# Altium footprint library PCB_Motor_controller.PcbLib: 16 footprints
Each footprint in its own frame and in the unit in brackets; x right, y up, seen from the top. Pads: shape width x height; smd on the part's side, far side on the other; paste and mask are expansions set on the pad; w line width, h text height; cw(c..) or ccw(c..) is an arc to the next point about the centre after c.
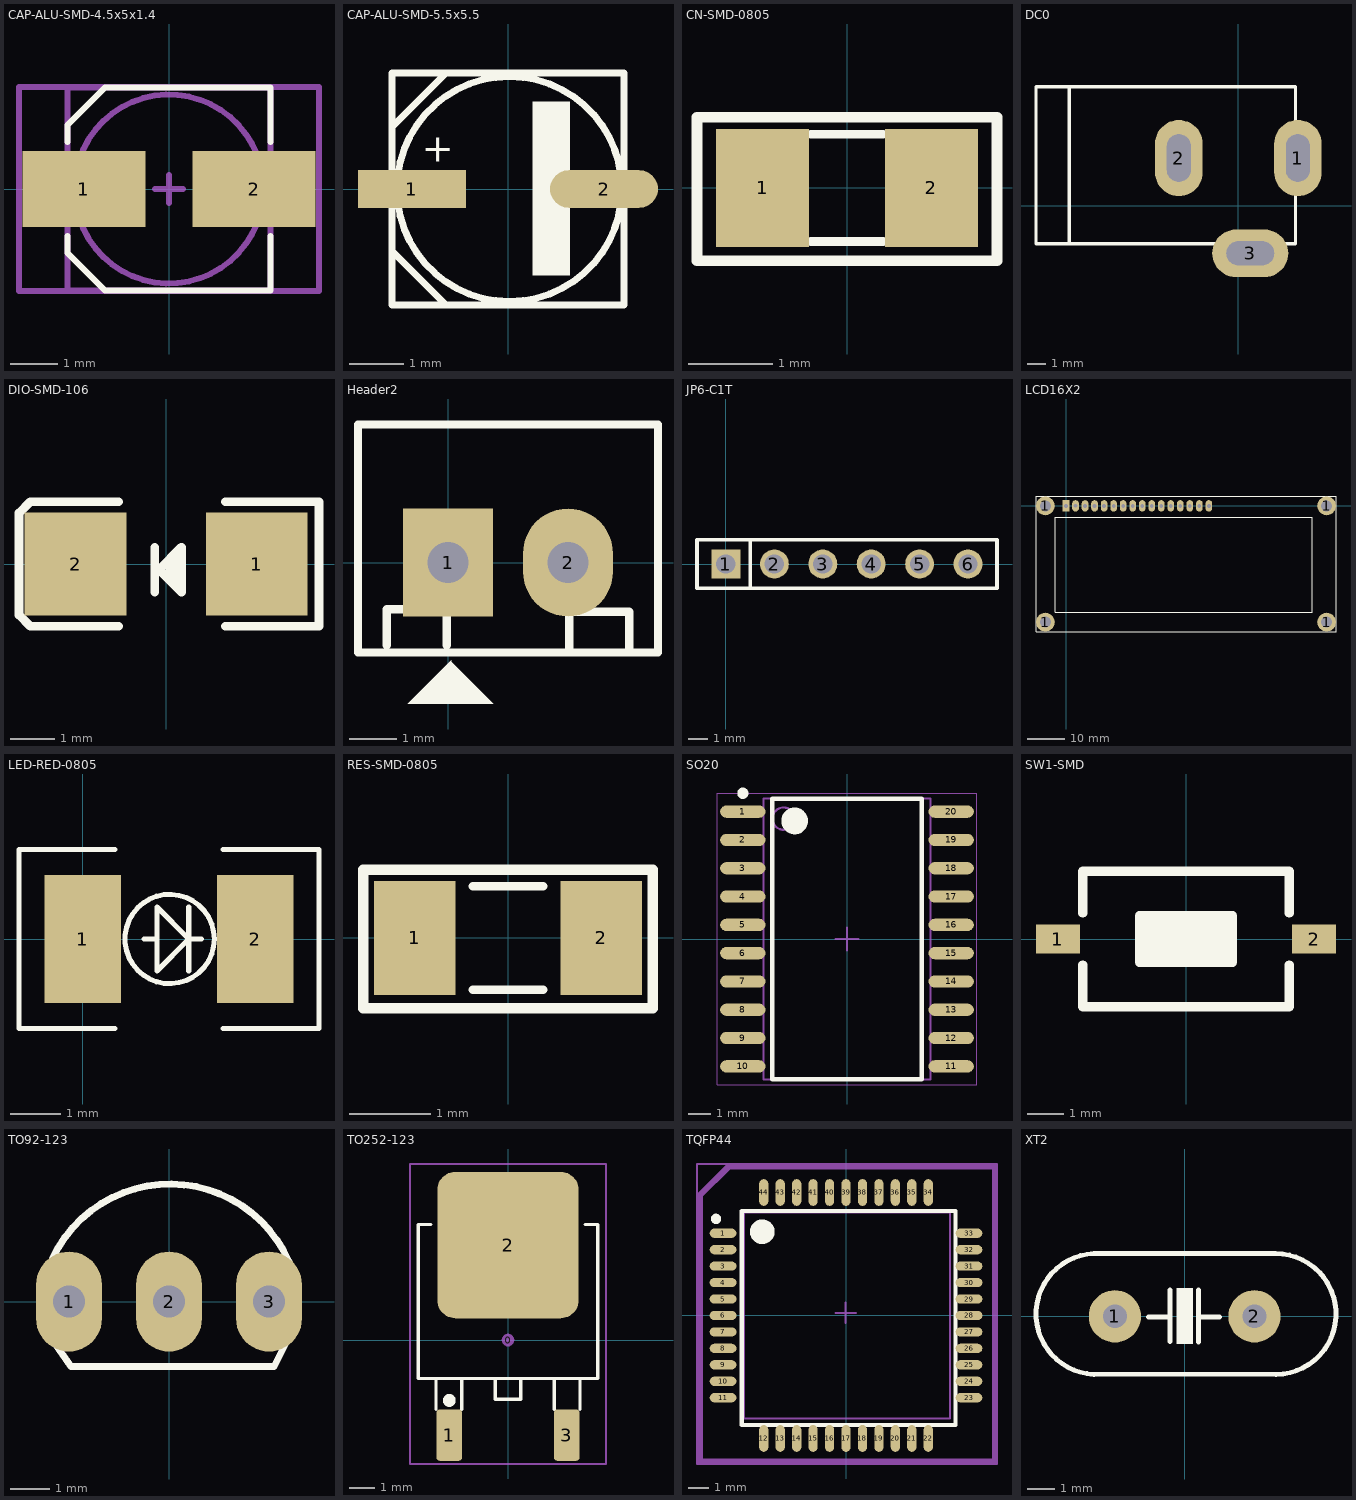
[diagram p0: the footprints below, top view; thin cyan lines are the x and y axes]

## CAP-ALU-SMD-4.5x5x1.4 [mm]
pads (2):
  rect 2.6x1.6 smd: 1(-1.8,0) 2(1.8,0)
Top Overlay:
  lines w0.127: -2.15,-1 -2.15,-1.35 -1.35,-2.15 2.15,-2.15 2.15,-1 ; -2.15,1 -2.15,1.35 -1.35,2.15 2.15,2.15 2.15,1
Mechanical 13:
  circle w0.127: c0,0 r2
  lines w0.127: -2.15,-2.15 2.15,-2.15 2.15,2.15 -2.15,2.15 -2.15,-2.15
Mechanical 15:
  lines w0.127: -0.3,0 0.3,0 ; 0,-0.3 0,0.3 ; -3.175,-2.159 3.175,-2.159 3.175,2.159 -3.175,2.159 -3.175,-2.159
3D body "4x5.5x1.stp": height 5.45, standoff -0.05, extent -2.5,-2.15 2.5,2.15

## CAP-ALU-SMD-5.5x5.5 [mm]
pads (2):
  rect 2x0.7 smd: 1(-1.778,0)
  oval 2x0.7 smd: 2(1.778,0)
Top Overlay:
  circle w0.127: c0.025,0 r2.083
  rectangle: 0.45,-1.6 1.15,1.625
  lines w0.127: -2.15,-1.15 -1.15,-2.15 ; -2.15,-0.05 -2.15,0.85 ; -2.15,1.15 -1.15,2.15 -0.85,2.15 ; -2.15,-2.15 2.15,-2.15 2.15,2.15 -2.15,2.15 -2.15,-2.15
  text "+" at -1.6,0.325 h0.89
3D body "User Library-ALU-B.STEP": height 5.4, standoff 0, extent -2.3,-2.15 2.3,2.15

## CN-SMD-0805 [mm]
pads (2):
  rect 1.1x1.397 smd: 1(-1,0) 2(1,0)
Top Overlay:
  lines w0.102: -0.432,-0.635 0.432,-0.635 ; -0.432,0.635 0.432,0.635
  lines w0.127: -1.778,-0.864 1.778,-0.864 1.778,0.838 -1.778,0.838 -1.778,-0.864
3D body "0805 SMD Capacitor.step": height 0.8, standoff 0.02, extent -1,-0.625 1,0.625

## DC0 [mil]
pads (3):
  oval 100x160 hole 50 slot 100 at 90 deg: 1(125,100) 2(-125,100)
  oval 160x100 hole 50 slot 100 at 0 deg: 3(25,-100)
Top Overlay:
  lines w7: -355,-80 -355,250 ; -425,-80 -425,250 120,250 120,-80 -425,-80
3D body "SW3dPS-dc range - dc connector[4840.2201].STEP": height 433.67, standoff -137.2, extent -410.35,-105.12 134,269.12

## DIO-SMD-106 [mil]
pads (2):
  rect 90x90.55 smd: 1(80,0) 2(-80,0)
Top Overlay:
  lines w7.87: -42.24,-55 -120,-55 -130,-45 -130,45 -120,55 -42.24,55 ; -10.12,-24.68 -10.12,14.69 ; 3.66,-10.91 3.66,0.91 ; 9.57,-16.81 9.57,6.81 ; 52.24,-55 135,-55 135,55 52.24,55 ; -6.18,-5 13.5,14.69 13.5,-24.68 -6.18,-5
Mechanical 1:
  lines w3.94: -2.87,0 12.87,0 ; 5,-7.87 5,7.87
3D body "User Library-DO-214Aa SMA.step": height 94.69, standoff 0, extent -98.7,-50.27 106.03,52.09

## Header2 [mil]
pads (2):
  rect 75x90 hole 34: 1(0,0)
  oval 75x90 hole 34: 2(100,0)
Top Overlay:
  region: -33.5,-117.5 37.5,-117.5 2.5,-82.5 2.5,-81.5
  lines w7: -51,-69 -51,-39 -1,-39 -1,-69 ; 101,-71 101,-41 151,-41 151,-71 ; -75,-75 175,-75 175,115 -75,115 -75,-75
3D body "User Library-PCB HEADER (JST BxB-PH-K-S (VERTICAL)).STEP": height 236.22, standoff -75, extent -68.11,-70 168.11,107.17

## JP6-C1T [mm]
pads (6):
  rect 1.52x1.52 hole 1.02: 1(0,0)
  round 1.52 hole 1.02: 2(2.54,0) 3(5.08,0) 4(7.62,0) 5(10.16,0) 6(12.7,0)
Top Overlay:
  lines w0.2: 1.27,-1.27 1.27,1.27 ; -1.52,-1.27 -1.52,1.27 14.22,1.27 14.22,-1.27 -1.52,-1.27
3D body "61300611821.stp": height 8.51, standoff -3.09, extent -1.52,-1.25 14.22,1.25

## LCD16X2 [mm]
pads (21):
  round 5 hole 3: 1(-5.5,-31) 1(-5.5,0) 1(69.5,-31) 1(69.5,0)
  rect 1.778x3.048 hole 1: 1(0,0)
  oval 1.778x3.048 hole 1: 2(2.54,0) 3(5.08,0) 4(7.62,0) 5(10.16,0) 6(12.7,0) 7(15.24,0) 8(17.78,0) 9(20.32,0) 10(22.86,0) 11(25.4,0) 12(27.94,0) 13(30.48,0) 14(33.02,0) 15(35.56,0) 16(38.1,0)
  round 0 all layers, no hole: ""(-5.5,0)
Top Overlay:
  lines w0.2: -8,-33.5 72,-33.5 72,2.5 -8,2.5 -8,-33.5 ; -2.921,-28.423 65.659,-28.423 65.659,-3.023 -2.921,-3.023 -2.921,-28.423
3D body "LCD module 16 X 2 backlight.STEP": height 18.14, standoff 4.93, extent -7.865,-33.96 72.635,2.54
3D body "jp16.stp": height 11.89, standoff -0.51, extent -1.219,-1.321 39.321,1.179
3D body "socket16.stp": height 7.02, standoff -2.98, extent -1.207,-1.333 39.433,1.207

## LED-RED-0805 [mil]
pads (2):
  rect 60x100 smd: 1(0,0) 2(135,0)
Top Overlay:
  circle w4: c68,0 r35
  lines w4: 25,-70 -50,-70 -50,70 25,70 ; 83,-25 83,0 ; 83,25 83,0 ; 93,0 83,0 ; 110,-70 185,-70 185,70 110,70 ; 58,0 48,0 58,0 ; 58,0 58,25 83,0 ; 58,0 58,-25 83,0
3D body: height 61, standoff 60, extent -2.8,-60 20,-37.2
3D body: height 60, standoff 15, extent -2.8,-60 137.4,60
3D body: height 19.68, standoff 0, extent 40,-60 95,60
3D body: height 43.31, standoff 0, extent -19.53,-31.5 -7.72,32.48
3D body: height 43.31, standoff 27.56, extent -19.53,-31.5 -2.8,32.48
3D body: height 11.81, standoff 0, extent -19.53,-31.5 18.86,32.48
3D body: height 11.81, standoff 0, extent 115.75,-31.5 154.13,32.48
3D body: height 43.31, standoff 27.56, extent 137.4,-31.5 154.13,32.48
3D body: height 43.31, standoff 0, extent 142.32,-31.5 154.13,32.48
3D body: height 65, standoff 60, extent 60,-10 75,5
3D body: height 61, standoff 60, extent 54.69,-36.96 110.35,36.96
3D body: height 61, standoff 60, extent 30,-10 50,5
3D body: height 70, standoff 60, extent 30,-40 110,40
3D body: height 75, standoff 60, extent -2.8,-60 137.4,60

## RES-SMD-0805 [mil]
pads (2):
  rect 39.37x55 smd: 1(-45,0) 2(45,0)
Top Overlay:
  lines w4: -17,-25 17,-25 ; -17,25 17,25
  lines w5: -70,-34 -70,33 70,33 70,-34 -70,-34
3D body "SW3dPS-0805 SMD Resistor.STEP": height 31.39, standoff 0.6, extent -39.36,-24.6 39.38,24.61

## SO20 [mm]
pads (20):
  oval 2.032x0.55 smd: 1(-4.675,5.715) 2(-4.675,4.445) 3(-4.675,3.175) 4(-4.675,1.905) 5(-4.675,0.635) 6(-4.675,-0.635) 7(-4.675,-1.905) 8(-4.675,-3.175) 9(-4.675,-4.445) 10(-4.675,-5.715) 11(4.675,-5.715) 12(4.675,-4.445) 13(4.675,-3.175) 14(4.675,-1.905) 15(4.675,-0.635) 16(4.675,0.635) 17(4.675,1.905) 18(4.675,3.175) 19(4.675,4.445) 20(4.675,5.715)
Top Overlay:
  circle w0.6: c-2.35,5.3 r0.3
  circle w0.25: c-4.675,6.54 r0.125
  lines w0.2: -3.35,-6.3 3.35,-6.3 3.35,6.3 -3.35,6.3 -3.35,-6.3
Mechanical 13:
  circle w0.1: c-2.85,5.4 r0.5
  lines w0.1: -3.75,-6.3 3.75,-6.3 3.75,6.3 -3.75,6.3 -3.75,-6.3
Mechanical 15:
  lines w0.05: -5.825,-6.55 5.825,-6.55 5.825,6.55 -5.825,6.55 -5.825,-6.55
  lines w0.1: -0.5,0 0.5,0 ; 0,-0.5 0,0.5
3D body "User Library-SOIC20.step": height 2.25, standoff 0.01, extent -5.067,-6.3 5.067,6.3

## SW1-SMD [mm]
pads (2):
  rect 1.2x0.8 smd: 1(-3.5,0) 2(3.5,0)
Top Overlay:
  rectangle: -1.27,-0.635 1.27,0.635
  lines w0.254: -2.819,-0.711 -2.819,-1.854 2.819,-1.854 2.819,-0.711 ; -2.819,0.711 -2.819,1.854 2.819,1.854 2.819,0.711 ; -1.27,-0.635 -1.27,0.635 1.27,0.635 1.27,-0.635 -1.27,-0.635
3D body "User Library-Button-SMD.step": height 2.5, standoff 0, extent -3.05,-1.85 3.05,1.85

## TO92-123 [mil]
pads (3):
  oval 66x100 hole 32: 1(-100,0) 2(0,0) 3(100,0)
Top Overlay:
  lines w7: -116.52,43.21 cw(c0.97,-12.43) 119.94,39.97 ; -115.34,-40.24 -98,-65 105,-65 118,-39
3D body "SW3dPS-TO92.STEP": height 245.04, standoff -199.79, extent -108.87,-65.56 108.86,95

## TO252-123 [mm]
pads (4):
  round 0.5 on Mech15: 0(0,0)
  rrect25% 1x2 smd: 1(-2.285,-3.7) 3(2.285,-3.7)
  rrect25% 5.5x5.7 smd: 2(0,3.7)
Top Overlay:
  circle w0.25: c-2.285,-2.35 r0.125
  lines w0.127: -3,4.5 -3.5,4.5 -3.5,-1.5 3.5,-1.5 3.5,4.5 3,4.5 ; -2.8,-2.7 -2.8,-1.5 -1.8,-1.5 -1.8,-2.7 ; 1.8,-2.7 1.8,-1.5 2.8,-1.5 2.8,-2.7 ; -0.5,-2.3 -0.5,-1.5 0.5,-1.5 0.5,-2.3 -0.5,-2.3
Mechanical 15:
  lines w0.076: -3.81,-4.826 -3.81,6.858 3.81,6.858 3.81,-4.826 -3.81,-4.826
3D body "DPAK.stp": height 2.31, standoff 0, extent -3.3,-3.951 3.3,5.762

## TQFP44 [mm]
pads (44):
  oval 1.3x0.45 smd: 1(-5.981,4) 2(-5.981,3.2) 3(-5.981,2.4) 4(-5.981,1.6) 5(-5.981,0.8) 6(-5.981,0) 7(-5.981,-0.8) 8(-5.981,-1.6) 9(-5.981,-2.4) 10(-5.981,-3.2) 11(-5.981,-4) 23(5.981,-4) 24(5.981,-3.2) 25(5.981,-2.4) 26(5.981,-1.6) 27(5.981,-0.8) 28(5.981,0) 29(5.981,0.8) 30(5.981,1.6) 31(5.981,2.4) 32(5.981,3.2) 33(5.981,4)
  oval 0.45x1.3 smd: 12(-4,-5.981) 13(-3.2,-5.981) 14(-2.4,-5.981) 15(-1.6,-5.981) 16(-0.8,-5.981) 17(0,-5.981) 18(0.8,-5.981) 19(1.6,-5.981) 20(2.4,-5.981) 21(3.2,-5.981) 22(4,-5.981) 34(4,5.981) 35(3.2,5.981) 36(2.4,5.981) 37(1.6,5.981) 38(0.8,5.981) 39(0,5.981) 40(-0.8,5.981) 41(-1.6,5.981) 42(-2.4,5.981) 43(-3.2,5.981) 44(-4,5.981)
Top Overlay:
  circle w0.25: c-6.323,4.698 r0.125
  circle w0.6: c-4.073,4.073 r0.3
  lines w0.2: -5.073,-5.327 -5.073,5.073 5.327,5.073 5.327,-5.327 -5.073,-5.327
Mechanical 13:
  circle w0.1: c-4.053,4.1 r0.5
  lines w0.1: -4.953,-5 -4.953,5 5.047,5 5.047,-5 -4.953,-5
Mechanical 15:
  lines w0.1: -0.516,0.127 0.484,0.127 ; -0.016,-0.373 -0.016,0.627 ; -7.239,-7.223 -7.239,7.366 7.334,7.366 7.334,-7.223 -7.239,-7.223
  lines w0.3: -7.112,-7.112 7.239,-7.112 7.239,7.239 -5.715,7.239 -7.112,5.842 -7.112,-7.112
  text ".Designator" at -4.4,0 h1
Mechanical 16:
  lines w0.3: -7.112,-7.112 7.239,-7.112 7.239,7.239 -5.715,7.239 -7.112,5.842 -7.112,-7.112
  text ".Comment" at -4.4,-2.4 h1
3D body "User Library-TQFP44.step": height 1.05, standoff -0.02, extent -5.994,-5.957 6.006,6.043

## XT2 [mil]
pads (2):
  round 75 hole 34: 1(-100,0) 2(100,0)
Top Overlay:
  region: 11.5,40 11.5,-39 -11.5,-39 -11.5,40
  lines w7: -135,-82.99 130,-82.99 ; -130,-83.09 cw(c-126.52,3.46) -130,90 130,90 cw(c130.27,3.39) 130.84,-83.23 ; -52,-1 -21,-1 ; -21,-36 -21,38 ; 20,-37 20,38 ; 20,-1 50,-1
3D body "User Library-HC49S-1.STEP": height 143.7, standoff -116.14, extent -216.14,-86.81 216.14,90